# Altium footprint library DIGI XBEE PRO PCB ANT.PCBLIB: 1 footprints
Each footprint in its own frame and in the unit in brackets; x right, y up, seen from the top. Pads: shape width x height; smd on the part's side, far side on the other; paste and mask are expansions set on the pad; w line width, h text height; cw(c..) or ccw(c..) is an arc to the next point about the centre after c.
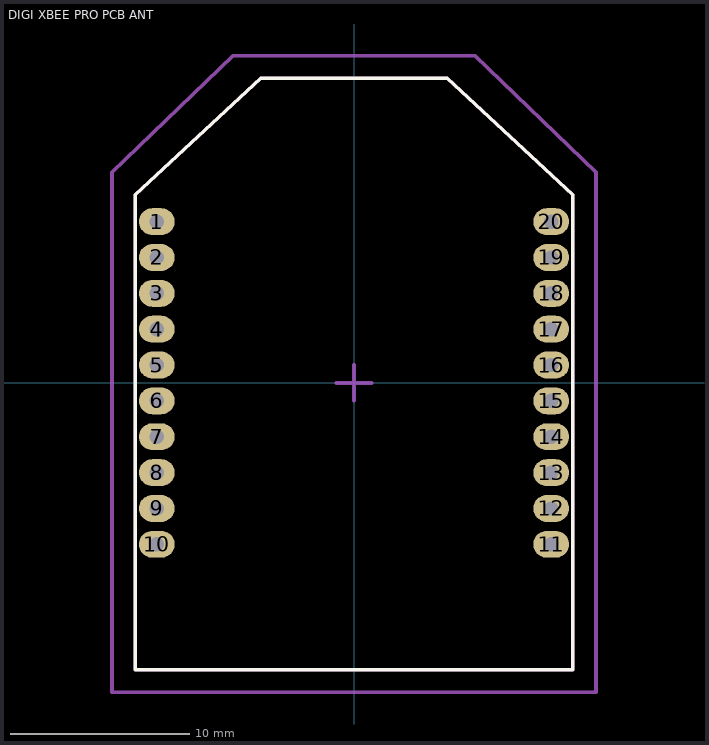
[diagram p0: the footprint, top view; thin cyan lines are the x and y axes]

## DIGI XBEE PRO PCB ANT [mm]
height 4
pads (20):
  oval 2x1.5 hole 0.8: 1(-11,9) 2(-11,7) 3(-11,5) 4(-11,3) 5(-11,1) 6(-11,-1) 7(-11,-3) 8(-11,-5) 9(-11,-7) 10(-11,-9) 11(11,-9) 12(11,-7) 13(11,-5) 14(11,-3) 15(11,-1) 16(11,1) 17(11,3) 18(11,5) 19(11,7) 20(11,9)
Top Overlay:
  lines w0.2: -12.2,-16 -12.2,10.5 -5.2,17 0,17 5.2,17 12.2,10.5 12.2,-16 -12.2,-16
Mechanical 1:
  lines w0.2: -12.2,-16 12.2,-16 12.2,10.5 5.2,17 0,17 -5.2,17 -12.2,10.5 -12.2,-16
Mechanical 15:
  lines w0.2: -1,0 1,0 ; 0,-1 0,1 ; -13.5,-17.25 13.5,-17.25 13.5,11.75 6.75,18.25 -6.75,18.25 -13.5,11.75 -13.5,-17.25
3D body "XBee Pro PCB Antenna.STEP": height 3.58, standoff -4.17, extent -12.192,-15.97 12.192,16.97